# EAGLE library part NCH_SSM6K819R (library Chip MOSFET)
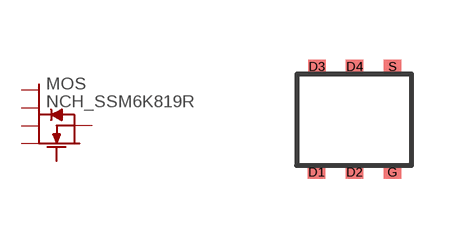
[diagram p1: symbol with the pads of SSM6K819R; footprint SSM6K819R]

Designator prefix MOS

## NCH_SSM6K819R  [SSM6K819R]
D1  D1
D2  D2
D3  D3
D4  D4
G  G
S  S

## Footprint SSM6K819R (pad centres in mm)
smd 0.44 x 0.33: D1 0,0; D2 0.95,0; D3 0.01,2.64; D4 0.95,2.64; G 1.9,0; S 1.9,2.64